# EAGLE library part PT4110 (library LITTLEBITS140826)
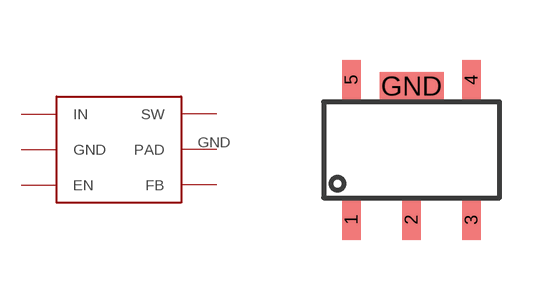
[diagram p14: symbol with the pads of SOT89-5; footprint SOT89-5]

Designator prefix -

## PT4110SOT89-5  [SOT89-5]
1  IN  in
2  GND  pwr
3  EN
4  FB
5  SW
GND  PAD

## Footprint SOT89-5 (pad centres in mm)
smd 0.46 x 1: 1 0.7,-0.55; 2 2.2,-0.55; 3 3.7,-0.55; 4 3.7,2.95; 5 0.7,2.95
smd 1.6 x 0.7: GND 2.2,2.8